# EAGLE library part SEN-18088 (library SEN-18088)
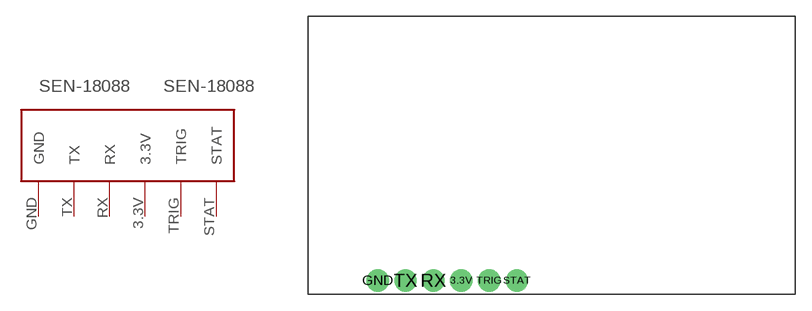
[diagram p0: symbol with the pads of SEN-18088; footprint SEN-18088]

Designator prefix SEN-18088

## SEN-18088  [SEN-18088]
3.3V  3.3V
GND  GND
RX  RX
STAT  STAT
TRIG  TRIG
TX  TX

## Footprint SEN-18088 (pad centres in mm)
drill 1.016 pad 2.032: 3.3V 13.97,-24.13; GND 6.35,-24.13; RX 11.43,-24.13; STAT 19.05,-24.13; TRIG 16.51,-24.13; TX 8.89,-24.13